# Altium schematic symbol library Ublox.SchLib: 1 symbol
Pins are listed as number, name and electrical type; pins without a type are passive.

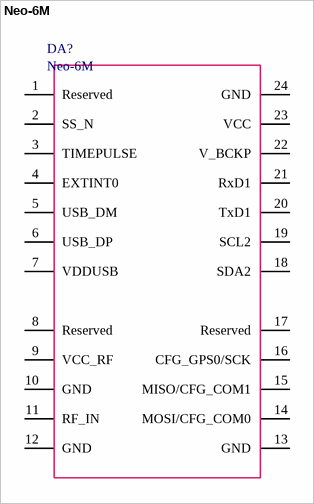
[diagram p0: symbol Neo-6M]

## Neo-6M
designator DA?
footprint Neo-6M
pins: 1 Reserved, 2 SS_N, 3 TIMEPULSE, 4 EXTINT0, 5 USB_DM, 6 USB_DP, 7 VDDUSB, 8 Reserved, 9 VCC_RF, 10 GND, 11 RF_IN, 12 GND, 13 GND, 14 MOSI/CFG_COM0, 15 MISO/CFG_COM1, 16 CFG_GPS0/SCK, 17 Reserved, 18 SDA2, 19 SCL2, 20 TxD1, 21 RxD1, 22 V_BCKP, 23 VCC, 24 GND